# EAGLE library part 19428-0004 (library SamacSys_Parts)
Automotive Connectors Source: Datasheet <https://componentsearchengine.com/Datasheets/1/19428-0004.pdf>
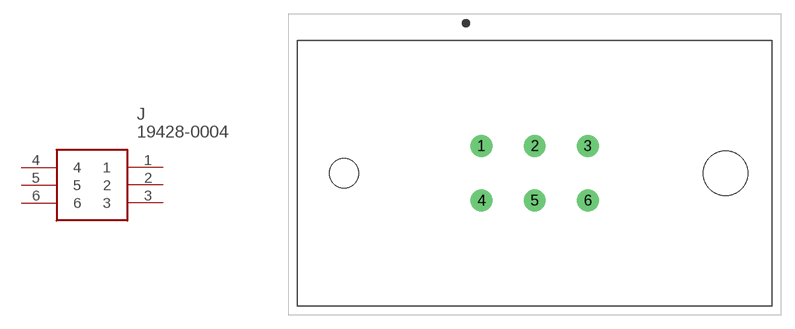
[diagram p0: symbol with the pads of 194280004; footprint 194280004]

Designator prefix J

## 19428-0004 (Arrow_Part_Number: 19428-0004; Description: Automotive Connectors; Height: 40.04mm; Manufacturer_Name: Molex; Manufacturer_Part_Number: 19428-0004; Mouser_Part_Number: 538-19428-0004; Mouser_Price-Stock: https://www.mouser.co.uk/ProductDetail/Molex/19428-0004?qs=l0xbah4rxIfd5Eogy17VMg%3D%3D)  [194280004]
1  1
2  2
3  3
4  4
5  5
6  6

## Footprint 194280004 (pad centres in mm)
19428-0004-1
drill 1.6 pad 2.4: 1 0,0; 2 5.84,0; 3 11.68,0; 4 0,-6; 5 5.84,-6; 6 11.68,-6
hole 3.2 at -15.115,-3
hole 4.86 at 26.795,-3